# Altium footprint library Crystals SMD.PcbLib: 3 footprints
Each footprint in its own frame and in the unit in brackets; x right, y up, seen from the top. Pads: shape width x height; smd on the part's side, far side on the other; paste and mask are expansions set on the pad; w line width, h text height; cw(c..) or ccw(c..) is an arc to the next point about the centre after c.
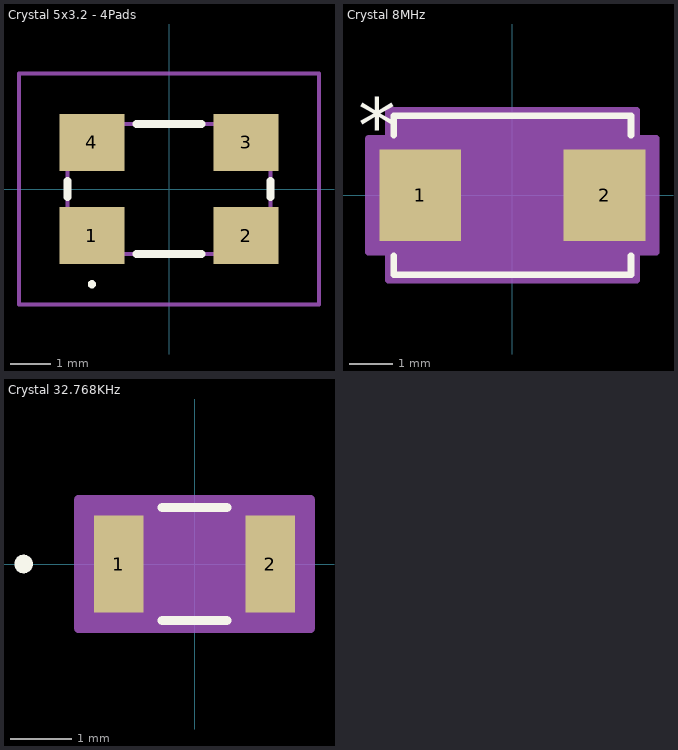
[diagram p0: the footprints below, top view; thin cyan lines are the x and y axes]

## Crystal 5x3.2 - 4Pads [mm]
pads (4):
  rect 1.6x1.4 smd: 1(-1.9,-1.15) 2(1.9,-1.15) 3(1.9,1.15) 4(-1.9,1.15)
Top Overlay:
  lines w0.1: -1.9,-2.4 cw(c-1.9,-2.35) -1.9,-2.3 cw(c-1.9,-2.35) -1.9,-2.4
  lines w0.2: -2.5,-0.2 -2.5,0.2 ; -0.8,-1.6 0.8,-1.6 ; -0.8,1.6 0.8,1.6 ; 2.5,-0.2 2.5,0.2
Mechanical 13:
  lines w0.1: -2.5,-1.6 -2.5,1.6 2.5,1.6 2.5,-1.6 -2.5,-1.6
Mechanical 15:
  lines w0.1: -3.7,-2.85 -3.7,2.85 3.7,2.85 3.7,-2.85 -3.7,-2.85
3D body "830106162701.stp": height 0.95, standoff 0, extent -2.5,-1.6 2.5,1.6

## Crystal 8MHz [mil] "5032"
pads (2):
  rect 74x83 smd paste+0 mask+0: 1(-83.5,0) 2(83.5,0)
Top Overlay:
  lines w6: -107.5,-54.6 -107.5,-72 107.5,-72 107.5,-54.6 ; -107.5,54.6 -107.5,72 107.5,72 107.5,54.6
  text "*" at -140,38.5 h50
Mechanical 13:
  lines w0: -102.5,-29.5 ccw(c-102.5,0) -102.5,29.5 ; 102.5,-29.5 cw(c102.5,0) 102.5,29.5
  lines w1: -102.5,-29.5 -102.5,-67 102.5,-67 102.5,-29.5 ; -102.5,29.5 -102.5,67 102.5,67 102.5,29.5 ; -102.5,57 -92.5,67
  text "*" at -90,13.5 h50
Mechanical 15:
  region: -112.5,-51.5 -130.5,-51.5 -130.5,51.5 -112.5,51.5 -112.5,77 112.5,77 112.5,51.5 130.5,51.5 130.5,-51.5 112.5,-51.5 112.5,-77 -112.5,-77
  lines w6: -130.5,-51.5 -112.5,-51.5 -112.5,-77 112.5,-77 112.5,-51.5 130.5,-51.5 130.5,51.5 112.5,51.5 112.5,77 -112.5,77 -112.5,51.5 -130.5,51.5 -130.5,-51.5

## Crystal 32.768KHz [mil] "3.2mx1.5mm"
pads (2):
  rect 32x63 smd paste+0 mask+0: 1(-49,0) 2(49,0)
Top Overlay:
  circle w6: c-110.5,0 r3
  lines w6: -20.89,-36.5 20.89,-36.5 ; -20.89,36.5 20.89,36.5
Mechanical 13:
  circle w0: c0,0 r3
  lines w1: -65,-31.5 -65,31.5 65,31.5 65,-31.5 -65,-31.5
Mechanical 15:
  region: -75,-41.5 -75,41.5 75,41.5 75,-41.5
  lines w6: -75,-41.5 75,-41.5 75,41.5 -75,41.5 -75,-41.5
3D body "CRYSTAL_SC32A-125PF20PPM_EPS.step": height 33.11, standoff 0, extent -65,-31.5 65,31.5